# Altium footprint library USBASP PCB.PcbLib: 12 footprints
Each footprint in its own frame and in the unit in brackets; x right, y up, seen from the top. Pads: shape width x height; smd on the part's side, far side on the other; paste and mask are expansions set on the pad; w line width, h text height; cw(c..) or ccw(c..) is an arc to the next point about the centre after c.
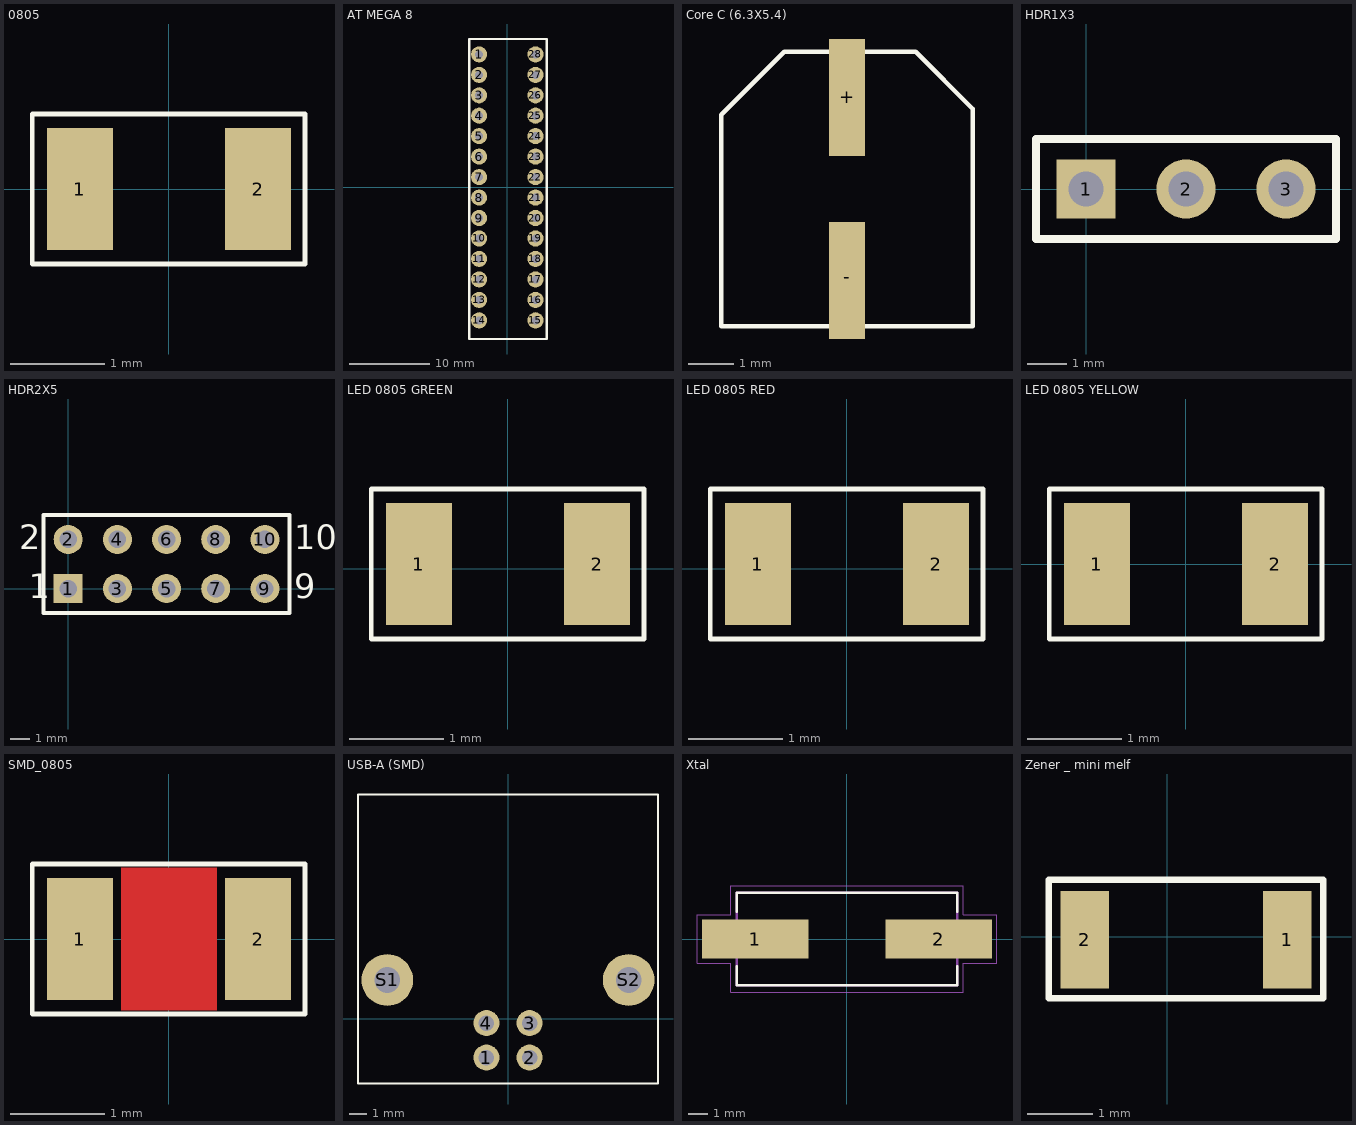
[diagram p0: the footprints below, top view; thin cyan lines are the x and y axes]

## 0805 [mm]
pads (2):
  rect 0.7x1.3 smd: 1(-0.95,0) 2(0.95,0)
Top Overlay:
  lines w0.05: -1.458,-0.8 1.45,-0.8 1.45,0.8 -1.458,0.8 -1.458,-0.8
3D body "0805-2012.step": height 0.76, standoff 0, extent -1.15,-0.675 1.15,0.675

## AT MEGA 8 [mm]
pads (28):
  round 2 hole 1: 1(-3.5,16.5) 2(-3.5,13.962) 3(-3.5,11.423) 4(-3.5,8.885) 5(-3.5,6.346) 6(-3.5,3.808) 7(-3.5,1.269) 8(-3.5,-1.269) 9(-3.5,-3.808) 10(-3.5,-6.346) 11(-3.5,-8.885) 12(-3.5,-11.423) 13(-3.5,-13.962) 14(-3.5,-16.5) 15(3.5,-16.5) 16(3.5,-13.962) 17(3.5,-11.423) 18(3.5,-8.885) 19(3.5,-6.346) 20(3.5,-3.808) 21(3.5,-1.269) 22(3.5,1.269) 23(3.5,3.808) 24(3.5,6.346) 25(3.5,8.885) 26(3.5,11.423) 27(3.5,13.962) 28(3.5,16.5)
Top Overlay:
  lines w0.254: -4.719,-18.819 4.896,-18.819 4.896,18.405 -4.719,18.405 -4.719,-18.819

## Core C (6.3X5.4) [mm]
pads (2):
  rect 0.8x2.6 smd: +(10.033,-30.48) -(10.033,-34.544)
Top Overlay:
  lines w0.1: 7.239,-35.56 12.827,-35.56 12.827,-30.734 11.557,-29.464 8.636,-29.464 7.239,-30.861 7.239,-35.56
3D body "User Library-capacitor size C.step": height 5.41, standoff -0.01, extent 7.383,-35.462 12.683,-29.562

## HDR1X3 [mm] "Connector; Header; 3 Position"
pads (3):
  rect 1.5x1.5 hole 0.9: 1(0,0)
  round 1.5 hole 0.9: 2(2.54,0) 3(5.08,0)
Top Overlay:
  lines w0.2: -1.27,-1.27 6.35,-1.27 6.35,1.27 -1.27,1.27 -1.27,-1.27

## HDR2X5 [mm] "Connector; Header; 5x2 Position"
pads (10):
  rect 1.5x1.5 hole 0.9: 1(0,0)
  round 1.5 hole 0.9: 2(0,2.54) 3(2.54,0) 4(2.54,2.54) 5(5.08,0) 6(5.08,2.54) 7(7.62,0) 8(7.62,2.54) 9(10.16,0) 10(10.16,2.54)
Top Overlay:
  lines w0.2: -1.27,-1.27 11.43,-1.27 11.43,3.81 -1.27,3.81 -1.27,-1.27
  text "10" at 11.684,2.032 h1.27
  text "9" at 11.684,-0.508 h1.27
  text "1" at -2.032,-0.508 h1.27
  text "2" at -2.54,2.032 h1.27

## LED 0805 GREEN [mm]
pads (2):
  rect 0.7x1.3 smd: 1(-0.95,0.05) 2(0.95,0.05)
Top Overlay:
  lines w0.05: -1.458,-0.75 -1.458,0.85 1.45,0.85 1.45,-0.75 -1.458,-0.75
3D body "everlight-17-21-0805LED-GREEN.step": height 1.12, standoff 0.01, extent -1,-0.575 1,0.675

## LED 0805 RED [mm]
pads (2):
  rect 0.7x1.3 smd: 1(-0.95,0.05) 2(0.95,0.05)
Top Overlay:
  lines w0.05: -1.458,-0.75 1.45,-0.75 1.45,0.85 -1.458,0.85 -1.458,-0.75
3D body "everlight-17-21-0805LED-red.step": height 1.11, standoff 0, extent -1,-0.575 1,0.675

## LED 0805 YELLOW [mm]
pads (2):
  rect 0.7x1.3 smd: 1(-0.95,0) 2(0.95,0)
Top Overlay:
  lines w0.05: -1.458,-0.8 -1.458,0.8 1.45,0.8 1.45,-0.8 -1.458,-0.8
3D body "everlight-17-21-0805LED-YELLOW.step": height 1.11, standoff 0, extent -1,-0.625 1,0.625

## SMD_0805 [mm]
pads (2):
  rect 0.7x1.3 smd: 1(-0.95,0) 2(0.95,0)
Top Layer:
  pour cut-out: -0.508,0.762 0.508,0.762 0.508,-0.762 -0.508,-0.762
Top Overlay:
  lines w0.05: -1.458,-0.8 -1.458,0.8 1.45,0.8 1.45,-0.8 -1.458,-0.8
3D body "SW3dPS-0805 SMD Capacitor.STEP": height 0.78, standoff 0, extent -1.004,-0.625 0.996,0.625

## USB-A (SMD) [mm]
pads (6):
  round 1.5 hole 0.9: 1(-1.25,-2.25) 2(1.25,-2.25) 3(1.25,-0.25) 4(-1.25,-0.25)
  round 3 hole 1.5: S1(-7,2.25) S2(7,2.25)
Top Overlay:
  lines w0.1: 1.25,-3.75 8.7,-3.75 8.7,13 -8.7,13 -8.7,-3.75 5.75,-3.75
3D body "usb_a-usbsb.stp": height 12.53, standoff -1.47, extent -7.299,-3.65 7.3,12.85

## Xtal [mm]
pads (2):
  rect 5.5x2 smd: 1(-4.75,0) 2(4.75,0)
Top Overlay:
  lines w0.127: -5.7,-1.41 -5.7,-2.4 5.7,-2.4 5.7,-1.41 ; -5.7,1.41 -5.7,2.4 5.7,2.4 5.7,1.41
Mechanical 13:
  circle w0.4: c-6.75,0 r0.2
  lines w0.127: -5.7,-2.4 5.7,-2.4 5.7,2.4 -5.7,2.4 -5.7,-2.4
Mechanical 15:
  lines w0.05: -7.75,-1.25 -7.75,1.25 -6,1.25 -6,2.75 6,2.75 6,1.25 7.75,1.25 7.75,-1.25 6,-1.25 6,-2.75 -6,-2.75 -6,-1.25 -7.75,-1.25
3D body "XTAL.step": height 4.31, standoff 0, extent -6.15,-2.362 6.15,2.468

## Zener _ mini melf [mm]
pads (2):
  rect 0.75x1.5 smd: 1(1.85,-0.05) 2(-1.275,-0.05)
Top Overlay:
  lines w0.1: -1.825,-0.95 2.4,-0.95 2.4,0.875 -1.825,0.875 -1.825,-0.95
3D body "User Library-SOD80-3.STEP": height 1.5, standoff 0, extent -1.5,-0.8 2.1,0.7